# Altium schematic symbol library STM32C011F4P6.SchLib: 1 symbol
Pins are listed as number, name and electrical type; pins without a type are passive.

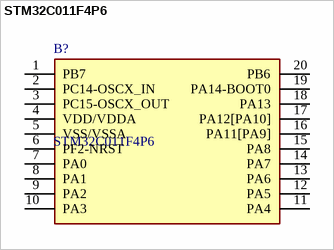
[diagram p0: symbol STM32C011F4P6]

## STM32C011F4P6
designator B?
ARM Cortex-M0+ STM32L0 Microcontroller IC 32-Bit Single-Core 32MHz 16KB (16K x 8) FLASH 20-TSSOP; Manufacturer_Name: STMicroelectronics; Geometry.Height: 1.2mm; Manufacturer_Part_Number: STM32C011F4P6; Mouser Part Number: 511-STM32C011F4P6; Mouser Price/Stock: https://www.mouser.co.uk/ProductDetail/STMicroelectronics/STM32C011F4P6?qs=IPgv5n7u5Qbo1GzhbgPEPw%3D%3D; Arrow Part Number: *; Arrow Price/Stock: *; Datasheet Link: https://www.st.com/resource/en/datasheet/stm32c011d6.pdf
footprint SOP65P640X120-20N
pins: 1 PB7, 2 PC14-OSCX_IN, 3 PC15-OSCX_OUT, 4 VDD/VDDA, 5 VSS/VSSA, 6 PF2-NRST, 7 PA0, 8 PA1, 9 PA2, 10 PA3, 11 PA4, 12 PA5, 13 PA6, 14 PA7, 15 PA8, 16 PA11[PA9], 17 PA12[PA10], 18 PA13, 19 PA14-BOOT0, 20 PB6